# EAGLE library part AO4818B (library charging)
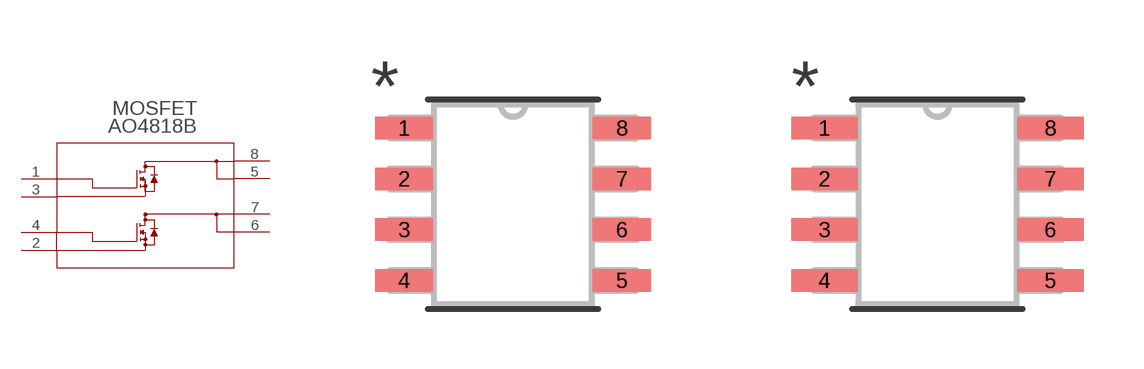
[diagram p2: symbol with the pads of SOIC8_NARROW_VIS; footprints SOIC8_NARROW_VIS, SOIC8_NARROW_VIS-M]

Designator prefix MOSFET

## AO4818B (COPYRIGHT: Copyright (C) 2021 Ultra Librarian. All rights reserved.; DIGI-KEY_PART_NUMBER_1: SI4816BDY-T1-E3TR-ND; DIGI-KEY_PART_NUMBER_2: SI4816BDY-T1-E3CT-ND; DIGI-KEY_PART_NUMBER_3: SI4816BDY-T1-E3DKR-ND; MANUFACTURER_PART_NUMBER: SI4816BDY-T1-E3; MFR_NAME: Vishay)  [SOIC8_NARROW_VIS]
1  4  pas
2  1  pas
3  3  pas
4  2  pas
5  6  pas
6  8  pas
7  7  pas
8  5  pas

## AO4818BSOIC8_NARROW_VIS-M (COPYRIGHT: Copyright (C) 2021 Ultra Librarian. All rights reserved.; DIGI-KEY_PART_NUMBER_1: SI4816BDY-T1-E3TR-ND; DIGI-KEY_PART_NUMBER_2: SI4816BDY-T1-E3CT-ND; DIGI-KEY_PART_NUMBER_3: SI4816BDY-T1-E3DKR-ND; MANUFACTURER_PART_NUMBER: SI4816BDY-T1-E3; MFR_NAME: Vishay)  [SOIC8_NARROW_VIS-M]
Pads as for SOIC8_NARROW_VIS

## AO4818BSOIC8_NARROW_VIS-L (COPYRIGHT: Copyright (C) 2021 Ultra Librarian. All rights reserved.; DIGI-KEY_PART_NUMBER_1: SI4816BDY-T1-E3TR-ND; DIGI-KEY_PART_NUMBER_2: SI4816BDY-T1-E3CT-ND; DIGI-KEY_PART_NUMBER_3: SI4816BDY-T1-E3DKR-ND; MANUFACTURER_PART_NUMBER: SI4816BDY-T1-E3; MFR_NAME: Vishay)  [SOIC8_NARROW_VIS-L]
Pads as for SOIC8_NARROW_VIS

## Footprint SOIC8_NARROW_VIS (pad centres in mm)
smd 1.46 x 0.559: 1 -2.724,1.905; 2 -2.724,0.635; 3 -2.724,-0.635; 4 -2.724,-1.905; 5 2.724,-1.905; 6 2.724,-0.635; 7 2.724,0.635; 8 2.724,1.905

## Footprint SOIC8_NARROW_VIS-M (pad centres in mm)
smd 1.664 x 0.559: 1 -2.826,1.905; 2 -2.826,0.635; 3 -2.826,-0.635; 4 -2.826,-1.905; 5 2.826,-1.905; 6 2.826,-0.635; 7 2.826,0.635; 8 2.826,1.905

## Footprint SOIC8_NARROW_VIS-L (pad centres in mm)
smd 1.257 x 0.508: 1 -2.623,1.905; 2 -2.623,0.635; 3 -2.623,-0.635; 4 -2.623,-1.905; 5 2.623,-1.905; 6 2.623,-0.635; 7 2.623,0.635; 8 2.623,1.905